# EAGLE library part NE555DR (library NE555DR)
None Check availability <https://pricing.snapeda.com/parts/NE555DR/Texas%20Instruments/view-part?ref=eda>
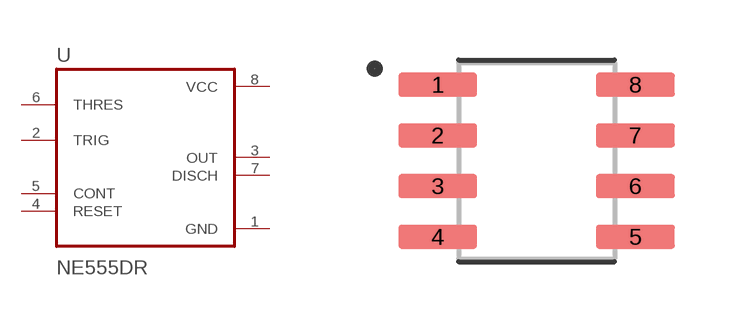
[diagram p0: symbol with the pads of SOIC127P599X175-8N; footprint SOIC127P599X175-8N]

Designator prefix U

## NE555DR (Availability: In Stock; Description: Single Precision Timer; MF: Texas Instruments; MP: NE555DR; Package: SOIC-8 Texas Instruments; Price: None; Purchase-URL: https://pricing.snapeda.com/search/part/NE555DR/?ref=eda)  [SOIC127P599X175-8N]
1  GND  pwr
2  TRIG  in
3  OUT  out
4  RESET  in
5  CONT
6  THRES  in
7  DISCH  out
8  VCC  pwr

## Footprint SOIC127P599X175-8N (pad centres in mm)
smd 1.97 x 0.6: 1 -2.47,1.905; 2 -2.47,0.635; 3 -2.47,-0.635; 4 -2.47,-1.905; 5 2.47,-1.905; 6 2.47,-0.635; 7 2.47,0.635; 8 2.47,1.905